# Altium footprint library PcbLib1.PcbLib: 7 footprints
Each footprint in its own frame and in the unit in brackets; x right, y up, seen from the top. Pads: shape width x height; smd on the part's side, far side on the other; paste and mask are expansions set on the pad; w line width, h text height; cw(c..) or ccw(c..) is an arc to the next point about the centre after c.
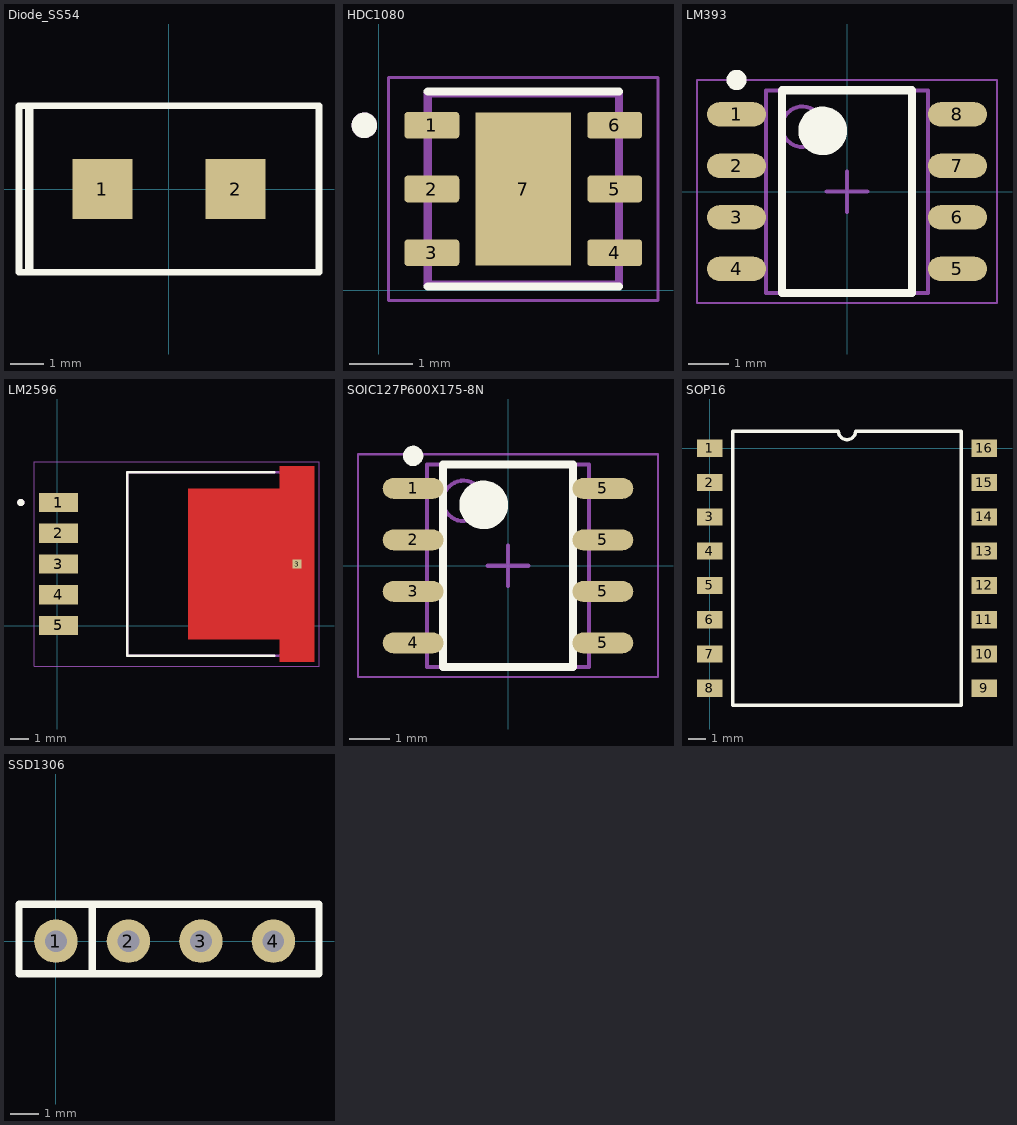
[diagram p0: the footprints below, top view; thin cyan lines are the x and y axes]

## Diode_SS54 [mm]
pads (2):
  rect 1.8x1.8 smd: 1(-2,0) 2(2,0)
Top Overlay:
  lines w0.2: -4.5,-2.5 4.5,-2.5 4.5,2.5 -4.5,2.5 -4.5,0 -4.5,-2.5
  lines w0.254: -4.191,-2.413 -4.191,2.413
3D body "SS54-HF.STEP": height 2.2, standoff 0, extent -2.221,-1.377 2.729,1.123

## HDC1080 [mm]
pads (7):
  rrect25% 0.86x0.42 smd: 1(0.834,2.587) 2(0.834,1.587) 3(0.834,0.587) 4(3.704,0.587) 5(3.704,1.587) 6(3.704,2.587)
  rect 1.5x2.4 smd paste-2: 7(2.269,1.587)
Top Overlay:
  circle w0.2: c-0.226,2.587 r0.1
  lines w0.127: 0.769,0.057 3.769,0.057 ; 0.769,3.117 3.769,3.117
Top Paste:
  region: 2.739,0.827 1.799,0.827 1.799,2.347 2.739,2.347
Mechanical 13:
  circle w0.2: c-0.226,2.587 r0.1
  lines w0.127: 0.769,0.087 0.769,3.087 3.769,3.087 3.769,0.087 0.769,0.087
Mechanical 15:
  lines w0.05: 0.154,-0.163 0.154,3.337 4.384,3.337 4.384,-0.163 0.154,-0.163
3D body "step_temp.STEP": height 0.78, standoff -0.02, extent 0.704,0.087 3.704,3.087

## LM393 [mm] "SOP, 8-Leads, Body 4,90x3,90mm, Pitch 1,27mm, IPC Medium Density"
height 1.75
pads (8):
  oval 1.45x0.6 smd: 1(-2.725,1.905) 2(-2.725,0.635) 3(-2.725,-0.635) 4(-2.725,-1.905) 5(2.725,-1.905) 6(2.725,-0.635) 7(2.725,0.635) 8(2.725,1.905)
Top Overlay:
  circle w0.6: c-0.6,1.5 r0.3
  circle w0.25: c-2.725,2.755 r0.125
  lines w0.2: -1.6,-2.5 1.6,-2.5 1.6,2.5 -1.6,2.5 -1.6,-2.5
Mechanical 13:
  circle w0.1: c-1.1,1.6 r0.5
  lines w0.1: -2,-2.5 2,-2.5 2,2.5 -2,2.5 -2,-2.5
Mechanical 15:
  lines w0.05: -3.7,-2.75 3.7,-2.75 3.7,2.75 -3.7,2.75 -3.7,-2.75
  lines w0.1: -0.5,0 0.5,0 ; 0,-0.5 0,0.5
3D body "LM393D.STEP": height 1.75, standoff 0, extent -3,-2.45 3,2.45

## LM2596 [mm]
pads (6):
  rect 2.16x1.07 smd: 1(0.059,6.829) 2(0.059,5.129) 3(0.059,3.429) 4(0.059,1.729) 5(0.059,0.029)
  rect 0.5x0.5 smd paste-1 mask+0: 3(13.274,3.429)
Top Layer:
  region: 14.229,-1.971 12.319,-1.971 12.319,-0.736 7.239,-0.736 7.239,7.594 12.319,7.594 12.319,8.829 14.229,8.829
Top Overlay:
  circle w0.2: c-2.021,6.829 r0.1
  lines w0.127: 11.999,-1.651 3.869,-1.651 3.869,8.509 11.999,8.509
Top Paste:
  region: 9.209,-0.446 7.809,-0.446 7.809,1.064 9.209,1.064
  region: 13.699,-1.906 12.849,-1.906 12.849,-0.686 13.699,-0.686
  region: 13.699,-0.556 12.849,-0.556 12.849,0.664 13.699,0.664
  region: 13.699,0.794 12.849,0.794 12.849,2.014 13.699,2.014
  region: 13.699,2.144 12.849,2.144 12.849,3.364 13.699,3.364
  region: 13.699,7.544 12.849,7.544 12.849,8.764 13.699,8.764
  region: 13.699,6.194 12.849,6.194 12.849,7.414 13.699,7.414
  region: 13.699,4.844 12.849,4.844 12.849,6.064 13.699,6.064
  region: 13.699,3.494 12.849,3.494 12.849,4.714 13.699,4.714
  region: 11.749,-0.446 10.349,-0.446 10.349,1.064 11.749,1.064
  region: 11.749,1.634 10.349,1.634 10.349,3.144 11.749,3.144
  region: 9.209,1.634 7.809,1.634 7.809,3.144 9.209,3.144
  region: 11.749,5.794 10.349,5.794 10.349,7.304 11.749,7.304
  region: 11.749,3.714 10.349,3.714 10.349,5.224 11.749,5.224
  region: 9.209,5.794 7.809,5.794 7.809,7.304 9.209,7.304
  region: 9.209,3.714 7.809,3.714 7.809,5.224 9.209,5.224
Top Solder:
  region: 14.329,-2.071 12.219,-2.071 12.219,-0.836 7.139,-0.836 7.139,7.694 12.219,7.694 12.219,8.929 14.329,8.929
Mechanical 13:
  circle w0.2: c-2.021,6.829 r0.1
  lines w0.127: 3.869,-1.651 12.509,-1.651 12.509,8.509 3.869,8.509 3.869,-1.651
Mechanical 15:
  lines w0.05: -1.271,-2.221 14.479,-2.221 14.479,9.079 -1.271,9.079 -1.271,-2.221
3D body "step_temp.STEP": height 4.65, standoff -0.15, extent -0.572,-1.651 13.779,8.509

## SOIC127P600X175-8N [mm] "SOIC, 8-Leads, Body 4,90x3,90mm, Pitch 1,27mm, IPC Medium Density"
height 1.75
pads (8):
  oval 1.5x0.51 smd: 1(-2.34,1.905) 2(-2.34,0.635) 3(-2.34,-0.635) 4(-2.34,-1.905) 5(2.34,-1.905) 5(2.34,-0.635) 5(2.34,0.635) 5(2.34,1.905)
Top Overlay:
  circle w0.25: c-2.34,2.71 r0.125
  circle w0.6: c-0.6,1.5 r0.3
  lines w0.2: -1.6,-2.5 -1.6,2.5 1.6,2.5 1.6,-2.5 -1.6,-2.5
Mechanical 13:
  circle w0.1: c-1.1,1.6 r0.5
  lines w0.1: -2,-2.5 -2,2.5 2,2.5 2,-2.5 -2,-2.5
Mechanical 15:
  lines w0.05: -3.7,-2.75 -3.7,2.75 3.7,2.75 3.7,-2.75 -3.7,-2.75
  lines w0.1: -0.5,0 0.5,0 ; 0,-0.5 0,0.5

## SOP16 [mm]
pads (16):
  rect 1.5x1 smd: 1(0,0) 2(0,-2) 3(0,-4) 4(0,-6) 5(0,-8) 6(0,-10) 7(0,-12) 8(0,-14) 9(16,-14) 10(16,-12) 11(16,-10) 12(16,-8) 13(16,-6) 14(16,-4) 15(16,-2) 16(16,0)
Top Overlay:
  lines w0.2: 1.335,-15 1.335,1 7.5,1 ccw(c8,1) 8.5,1 14.665,1 14.665,-15 1.335,-15
3D body "User Library-RA-02-2.step": height 3.2, standoff 0, extent 0.001,-15.485 16.001,1.515

## SSD1306 [mil]
pads (4):
  round 60 hole 30: 1(0,0) 2(100,0) 3(200,0) 4(300,0)
Top Overlay:
  lines w10: 50,-42 50,50 ; -51,-45 -51,51 363,51 363,-45 -51,-45
3D body "User Library-128x64I2COLEDDisplayAdafruit.step": height 294.2, standoff -132.8, extent -376.18,-1008.43 675,88.43